# EAGLE library part B13B-PH-K (library con-jst-ph)
HEADER
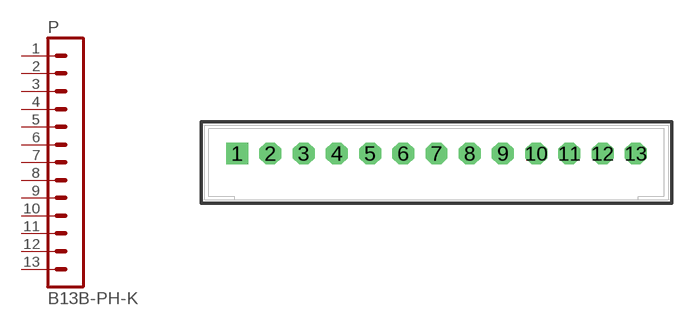
[diagram p7: symbol with the pads of B13B-PH-K; footprint B13B-PH-K]

Designator prefix P

## B13B-PH-K  [B13B-PH-K]
1  1  pas
2  2  pas
3  3  pas
4  4  pas
5  5  pas
6  6  pas
7  7  pas
8  8  pas
9  9  pas
10  10  pas
11  11  pas
12  12  pas
13  13  pas

## Footprint B13B-PH-K (pad centres in mm)
HEADER
drill 0.813 square: 1 -12,0
drill 0.813 octagon: 2 -10,0; 3 -8,0; 4 -6,0; 5 -4,0; 6 -2,0; 7 0,0; 8 2,0; 9 4,0; 10 6,0; 11 8,0; 12 10,0; 13 12,0